# Altium footprint library Elantec Footprints.PcbLib: 48 footprints (part 3 of 3)
Each footprint in its own frame and in the unit in brackets; x right, y up, seen from the top. Pads: shape width x height; smd on the part's side, far side on the other; paste and mask are expansions set on the pad; w line width, h text height; cw(c..) or ccw(c..) is an arc to the next point about the centre after c.
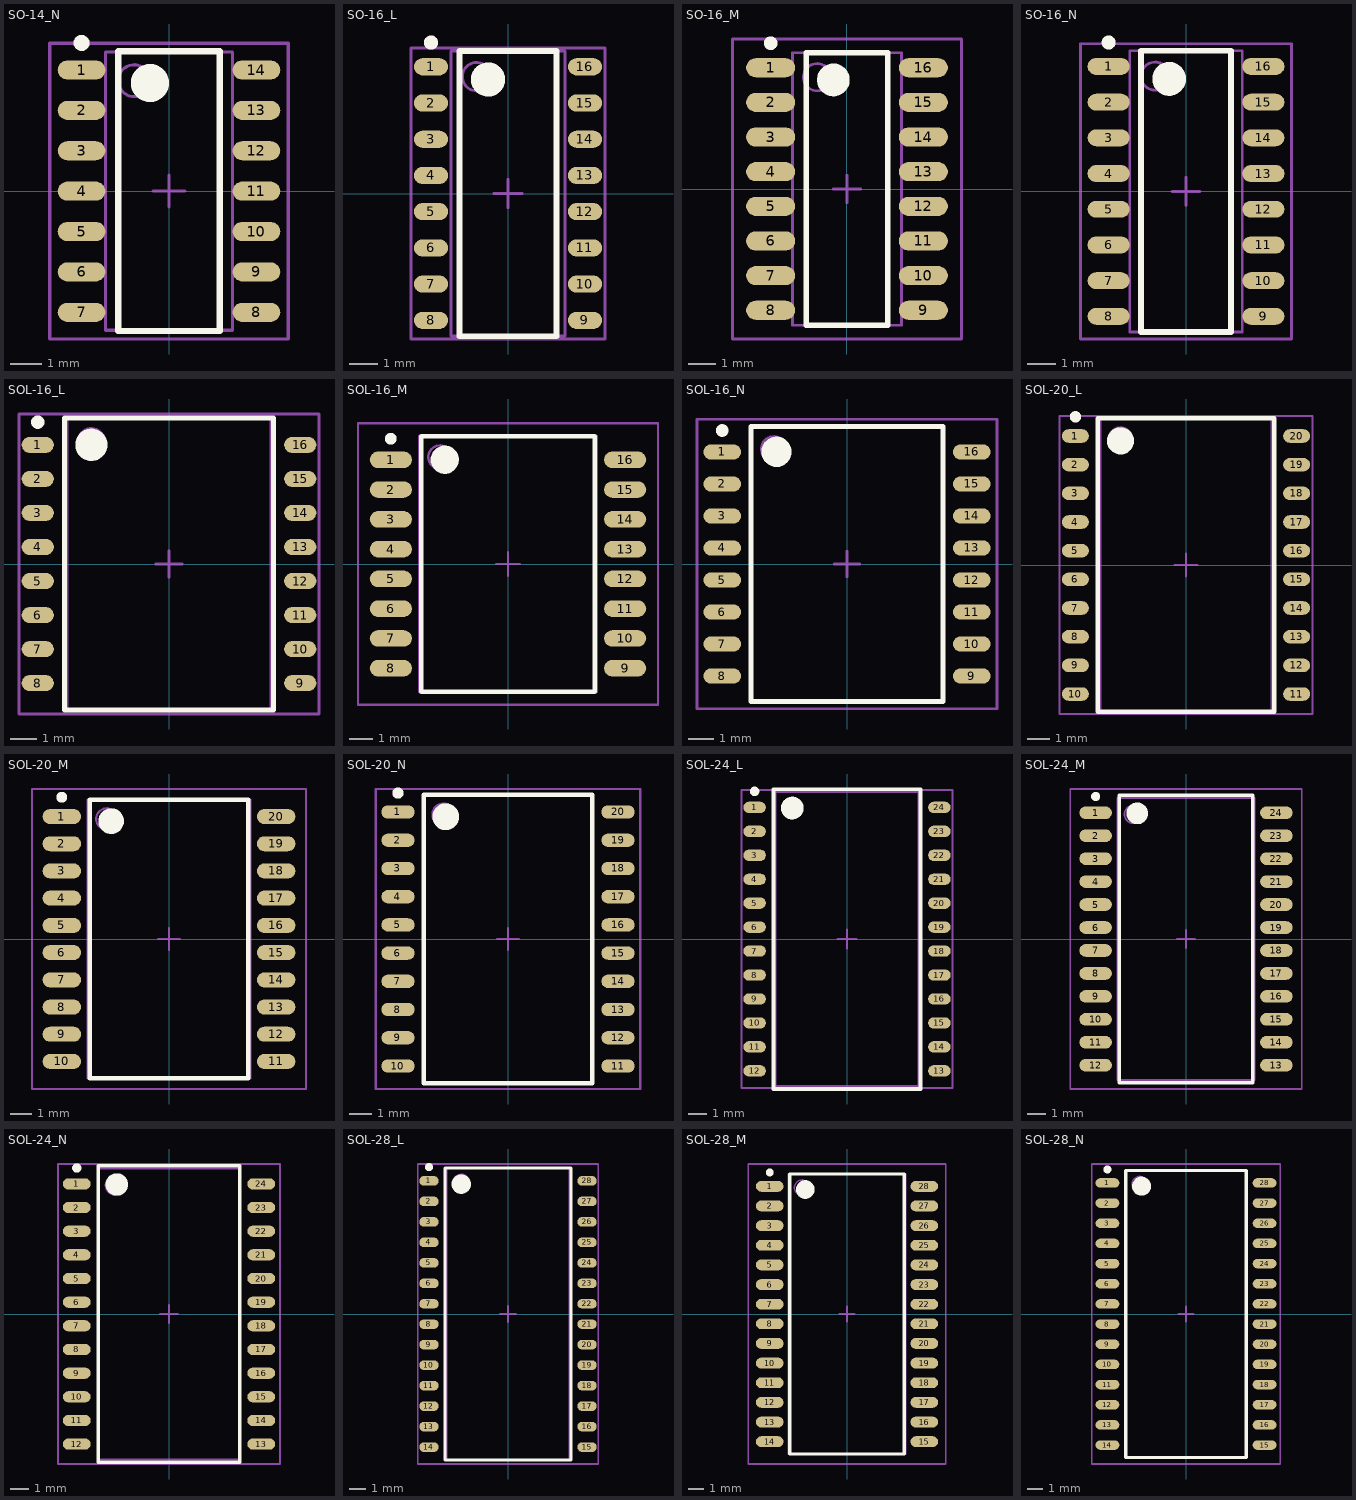
[diagram p2: the footprints below, top view; thin cyan lines are the x and y axes]

## SO-14_N [mm] "14-Pin Small Outline Integrated Circuit 1.27 mm Pitch, IPC Medium Density"
height 1.73
pads (14):
  oval 1.5x0.6 smd: 1(-2.75,3.81) 2(-2.75,2.54) 3(-2.75,1.27) 4(-2.75,0) 5(-2.75,-1.27) 6(-2.75,-2.54) 7(-2.75,-3.81) 8(2.75,-3.81) 9(2.75,-2.54) 10(2.75,-1.27) 11(2.75,0) 12(2.75,1.27) 13(2.75,2.54) 14(2.75,3.81)
Top Overlay:
  circle w0.25: c-2.75,4.66 r0.125
  circle w0.6: c-0.6,3.4 r0.3
  lines w0.2: -1.6,-4.4 -1.6,4.4 1.6,4.4 1.6,-4.4 -1.6,-4.4
Mechanical 13:
  circle w0.1: c-1.1,3.475 r0.5
  lines w0.1: -2,-4.375 -2,4.375 2,4.375 2,-4.375 -2,-4.375
Mechanical 15:
  lines w0.1: -0.5,0 0.5,0 ; 0,-0.5 0,0.5 ; -3.75,-4.65 -3.75,4.65 3.75,4.65 3.75,-4.65 -3.75,-4.65
3D body: height 1.73, standoff 0, extent -2,-4.375 2,4.375

## SO-16_L [mm] "16-Pin Small Outline Integrated Circuit 1.27 mm Pitch, IPC High Density"
height 1.73
pads (16):
  oval 1.2x0.6 smd: 1(-2.7,4.445) 2(-2.7,3.175) 3(-2.7,1.905) 4(-2.7,0.635) 5(-2.7,-0.635) 6(-2.7,-1.905) 7(-2.7,-3.175) 8(-2.7,-4.445) 9(2.7,-4.445) 10(2.7,-3.175) 11(2.7,-1.905) 12(2.7,-0.635) 13(2.7,0.635) 14(2.7,1.905) 15(2.7,3.175) 16(2.7,4.445)
Top Overlay:
  circle w0.6: c-0.7,4 r0.3
  circle w0.25: c-2.7,5.295 r0.125
  lines w0.2: -1.7,-5 1.7,-5 1.7,5 -1.7,5 -1.7,-5
Mechanical 13:
  circle w0.1: c-1.1,4.1 r0.5
  lines w0.1: -2,-5 2,-5 2,5 -2,5 -2,-5
Mechanical 15:
  lines w0.1: -0.5,0 0.5,0 ; 0,-0.5 0,0.5 ; -3.4,-5.1 3.4,-5.1 3.4,5.1 -3.4,5.1 -3.4,-5.1
3D body: height 1.73, standoff 0, extent -2,-5 2,5

## SO-16_M [mm] "16-Pin Small Outline Integrated Circuit 1.27 mm Pitch, IPC Low Density"
height 1.73
pads (16):
  oval 1.8x0.7 smd: 1(-2.8,4.445) 2(-2.8,3.175) 3(-2.8,1.905) 4(-2.8,0.635) 5(-2.8,-0.635) 6(-2.8,-1.905) 7(-2.8,-3.175) 8(-2.8,-4.445) 9(2.8,-4.445) 10(2.8,-3.175) 11(2.8,-1.905) 12(2.8,-0.635) 13(2.8,0.635) 14(2.8,1.905) 15(2.8,3.175) 16(2.8,4.445)
Top Overlay:
  circle w0.6: c-0.5,4 r0.3
  circle w0.25: c-2.8,5.345 r0.125
  lines w0.2: -1.5,-5 1.5,-5 1.5,5 -1.5,5 -1.5,-5
Mechanical 13:
  circle w0.1: c-1.1,4.1 r0.5
  lines w0.1: -2,-5 2,-5 2,5 -2,5 -2,-5
Mechanical 15:
  lines w0.1: -0.5,0 0.5,0 ; 0,-0.5 0,0.5 ; -4.2,-5.5 4.2,-5.5 4.2,5.5 -4.2,5.5 -4.2,-5.5
3D body: height 1.73, standoff 0, extent -2,-5 2,5

## SO-16_N [mm] "16-Pin Small Outline Integrated Circuit 1.27 mm Pitch, IPC Medium Density"
height 1.73
pads (16):
  oval 1.5x0.6 smd: 1(-2.75,4.445) 2(-2.75,3.175) 3(-2.75,1.905) 4(-2.75,0.635) 5(-2.75,-0.635) 6(-2.75,-1.905) 7(-2.75,-3.175) 8(-2.75,-4.445) 9(2.75,-4.445) 10(2.75,-3.175) 11(2.75,-1.905) 12(2.75,-0.635) 13(2.75,0.635) 14(2.75,1.905) 15(2.75,3.175) 16(2.75,4.445)
Top Overlay:
  circle w0.25: c-2.75,5.295 r0.125
  circle w0.6: c-0.6,4 r0.3
  lines w0.2: -1.6,-5 -1.6,5 1.6,5 1.6,-5 -1.6,-5
Mechanical 13:
  circle w0.1: c-1.1,4.1 r0.5
  lines w0.1: -2,-5 -2,5 2,5 2,-5 -2,-5
Mechanical 15:
  lines w0.1: -0.5,0 0.5,0 ; 0,-0.5 0,0.5 ; -3.75,-5.25 -3.75,5.25 3.75,5.25 3.75,-5.25 -3.75,-5.25
3D body: height 1.73, standoff 0, extent -2,-5 2,5

## SOL-16_L [mm] "16-Pin Small Outline Integrated Circuit 1.27 mm Pitch, IPC High Density"
height 2.65
pads (16):
  oval 1.2x0.6 smd: 1(-4.9,4.445) 2(-4.9,3.175) 3(-4.9,1.905) 4(-4.9,0.635) 5(-4.9,-0.635) 6(-4.9,-1.905) 7(-4.9,-3.175) 8(-4.9,-4.445) 9(4.9,-4.445) 10(4.9,-3.175) 11(4.9,-1.905) 12(4.9,-0.635) 13(4.9,0.635) 14(4.9,1.905) 15(4.9,3.175) 16(4.9,4.445)
Top Overlay:
  circle w0.25: c-4.9,5.295 r0.125
  circle w0.6: c-2.9,4.45 r0.3
  lines w0.2: -3.9,-5.45 -3.9,5.45 3.9,5.45 3.9,-5.45 -3.9,-5.45
Mechanical 13:
  circle w0.1: c-2.9,4.56 r0.5
  lines w0.1: -3.8,-5.46 -3.8,5.46 3.8,5.46 3.8,-5.46 -3.8,-5.46
Mechanical 15:
  lines w0.1: -0.5,0 0.5,0 ; 0,-0.5 0,0.5 ; -5.6,-5.6 -5.6,5.6 5.6,5.6 5.6,-5.6 -5.6,-5.6
3D body: height 2.65, standoff 0, extent -3.8,-5.46 3.8,5.46

## SOL-16_M [mm] "16-Pin Small Outline Integrated Circuit 1.27 mm Pitch, IPC Low Density"
height 2.65
pads (16):
  oval 1.8x0.7 smd: 1(-5,4.445) 2(-5,3.175) 3(-5,1.905) 4(-5,0.635) 5(-5,-0.635) 6(-5,-1.905) 7(-5,-3.175) 8(-5,-4.445) 9(5,-4.445) 10(5,-3.175) 11(5,-1.905) 12(5,-0.635) 13(5,0.635) 14(5,1.905) 15(5,3.175) 16(5,4.445)
Top Overlay:
  circle w0.25: c-5,5.345 r0.125
  circle w0.6: c-2.7,4.45 r0.3
  lines w0.2: -3.7,-5.45 -3.7,5.45 3.7,5.45 3.7,-5.45 -3.7,-5.45
Mechanical 13:
  circle w0.1: c-2.9,4.56 r0.5
  lines w0.1: -3.8,-5.46 -3.8,5.46 3.8,5.46 3.8,-5.46 -3.8,-5.46
Mechanical 15:
  lines w0.1: -0.5,0 0.5,0 ; 0,-0.5 0,0.5 ; -6.4,-6 -6.4,6 6.4,6 6.4,-6 -6.4,-6
3D body: height 2.65, standoff 0, extent -3.8,-5.46 3.8,5.46

## SOL-16_N [mm] "16-Pin Small Outline Integrated Circuit 1.27 mm Pitch, IPC Medium Density"
height 2.65
pads (16):
  oval 1.5x0.6 smd: 1(-4.95,4.445) 2(-4.95,3.175) 3(-4.95,1.905) 4(-4.95,0.635) 5(-4.95,-0.635) 6(-4.95,-1.905) 7(-4.95,-3.175) 8(-4.95,-4.445) 9(4.95,-4.445) 10(4.95,-3.175) 11(4.95,-1.905) 12(4.95,-0.635) 13(4.95,0.635) 14(4.95,1.905) 15(4.95,3.175) 16(4.95,4.445)
Top Overlay:
  circle w0.25: c-4.95,5.295 r0.125
  circle w0.6: c-2.8,4.45 r0.3
  lines w0.2: -3.8,-5.45 -3.8,5.45 3.8,5.45 3.8,-5.45 -3.8,-5.45
Mechanical 13:
  circle w0.1: c-2.9,4.56 r0.5
  lines w0.1: -3.8,-5.46 -3.8,5.46 3.8,5.46 3.8,-5.46 -3.8,-5.46
Mechanical 15:
  lines w0.1: -0.5,0 0.5,0 ; 0,-0.5 0,0.5 ; -5.95,-5.75 -5.95,5.75 5.95,5.75 5.95,-5.75 -5.95,-5.75
3D body: height 2.65, standoff 0, extent -3.8,-5.46 3.8,5.46

## SOL-20_L [mm] "20-Pin Small Outline Integrated Circuit 1.27 mm Pitch, IPC High Density"
height 2.65
pads (20):
  oval 1.2x0.6 smd: 1(-4.9,5.715) 2(-4.9,4.445) 3(-4.9,3.175) 4(-4.9,1.905) 5(-4.9,0.635) 6(-4.9,-0.635) 7(-4.9,-1.905) 8(-4.9,-3.175) 9(-4.9,-4.445) 10(-4.9,-5.715) 11(4.9,-5.715) 12(4.9,-4.445) 13(4.9,-3.175) 14(4.9,-1.905) 15(4.9,-0.635) 16(4.9,0.635) 17(4.9,1.905) 18(4.9,3.175) 19(4.9,4.445) 20(4.9,5.715)
Top Overlay:
  circle w0.25: c-4.9,6.565 r0.125
  circle w0.6: c-2.9,5.5 r0.3
  lines w0.2: -3.9,-6.5 -3.9,6.5 3.9,6.5 3.9,-6.5 -3.9,-6.5
Mechanical 13:
  circle w0.1: c-2.9,5.6 r0.5
  lines w0.1: -3.8,-6.5 -3.8,6.5 3.8,6.5 3.8,-6.5 -3.8,-6.5
Mechanical 15:
  lines w0.1: -0.5,0 0.5,0 ; 0,-0.5 0,0.5 ; -5.6,-6.6 -5.6,6.6 5.6,6.6 5.6,-6.6 -5.6,-6.6
3D body: height 2.65, standoff 0, extent -3.8,-6.5 3.8,6.5

## SOL-20_M [mm] "20-Pin Small Outline Integrated Circuit 1.27 mm Pitch, IPC Low Density"
height 2.65
pads (20):
  oval 1.8x0.7 smd: 1(-5,5.715) 2(-5,4.445) 3(-5,3.175) 4(-5,1.905) 5(-5,0.635) 6(-5,-0.635) 7(-5,-1.905) 8(-5,-3.175) 9(-5,-4.445) 10(-5,-5.715) 11(5,-5.715) 12(5,-4.445) 13(5,-3.175) 14(5,-1.905) 15(5,-0.635) 16(5,0.635) 17(5,1.905) 18(5,3.175) 19(5,4.445) 20(5,5.715)
Top Overlay:
  circle w0.25: c-5,6.615 r0.125
  circle w0.6: c-2.7,5.5 r0.3
  lines w0.2: -3.7,-6.5 -3.7,6.5 3.7,6.5 3.7,-6.5 -3.7,-6.5
Mechanical 13:
  circle w0.1: c-2.9,5.6 r0.5
  lines w0.1: -3.8,-6.5 -3.8,6.5 3.8,6.5 3.8,-6.5 -3.8,-6.5
Mechanical 15:
  lines w0.1: -0.5,0 0.5,0 ; 0,-0.5 0,0.5 ; -6.4,-7 -6.4,7 6.4,7 6.4,-7 -6.4,-7
3D body: height 2.65, standoff 0, extent -3.8,-6.5 3.8,6.5

## SOL-20_N [mm] "20-Pin Small Outline Integrated Circuit 1.27 mm Pitch, IPC Medium Density"
height 2.65
pads (20):
  oval 1.5x0.6 smd: 1(-4.95,5.715) 2(-4.95,4.445) 3(-4.95,3.175) 4(-4.95,1.905) 5(-4.95,0.635) 6(-4.95,-0.635) 7(-4.95,-1.905) 8(-4.95,-3.175) 9(-4.95,-4.445) 10(-4.95,-5.715) 11(4.95,-5.715) 12(4.95,-4.445) 13(4.95,-3.175) 14(4.95,-1.905) 15(4.95,-0.635) 16(4.95,0.635) 17(4.95,1.905) 18(4.95,3.175) 19(4.95,4.445) 20(4.95,5.715)
Top Overlay:
  circle w0.25: c-4.95,6.565 r0.125
  circle w0.6: c-2.8,5.5 r0.3
  lines w0.2: -3.8,-6.5 -3.8,6.5 3.8,6.5 3.8,-6.5 -3.8,-6.5
Mechanical 13:
  circle w0.1: c-2.9,5.6 r0.5
  lines w0.1: -3.8,-6.5 -3.8,6.5 3.8,6.5 3.8,-6.5 -3.8,-6.5
Mechanical 15:
  lines w0.1: -0.5,0 0.5,0 ; 0,-0.5 0,0.5 ; -5.95,-6.75 -5.95,6.75 5.95,6.75 5.95,-6.75 -5.95,-6.75
3D body: height 2.65, standoff 0, extent -3.8,-6.5 3.8,6.5

## SOL-24_L [mm] "24-Pin Small Outline Integrated Circuit 1.27 mm Pitch, IPC High Density"
height 2.65
pads (24):
  oval 1.2x0.6 smd: 1(-4.9,6.985) 2(-4.9,5.715) 3(-4.9,4.445) 4(-4.9,3.175) 5(-4.9,1.905) 6(-4.9,0.635) 7(-4.9,-0.635) 8(-4.9,-1.905) 9(-4.9,-3.175) 10(-4.9,-4.445) 11(-4.9,-5.715) 12(-4.9,-6.985) 13(4.9,-6.985) 14(4.9,-5.715) 15(4.9,-4.445) 16(4.9,-3.175) 17(4.9,-1.905) 18(4.9,-0.635) 19(4.9,0.635) 20(4.9,1.905) 21(4.9,3.175) 22(4.9,4.445) 23(4.9,5.715) 24(4.9,6.985)
Top Overlay:
  circle w0.25: c-4.9,7.835 r0.125
  circle w0.6: c-2.9,6.95 r0.3
  lines w0.2: -3.9,-7.95 -3.9,7.95 3.9,7.95 3.9,-7.95 -3.9,-7.95
Mechanical 13:
  circle w0.1: c-2.9,6.9 r0.5
  lines w0.1: -3.8,-7.8 -3.8,7.8 3.8,7.8 3.8,-7.8 -3.8,-7.8
Mechanical 15:
  lines w0.1: -0.5,0 0.5,0 ; 0,-0.5 0,0.5 ; -5.6,-7.9 -5.6,7.9 5.6,7.9 5.6,-7.9 -5.6,-7.9
3D body: height 2.65, standoff 0, extent -3.8,-7.8 3.8,7.8

## SOL-24_M [mm] "24-Pin Small Outline Integrated Circuit 1.27 mm Pitch, IPC Low Density"
height 2.65
pads (24):
  oval 1.8x0.7 smd: 1(-5,6.985) 2(-5,5.715) 3(-5,4.445) 4(-5,3.175) 5(-5,1.905) 6(-5,0.635) 7(-5,-0.635) 8(-5,-1.905) 9(-5,-3.175) 10(-5,-4.445) 11(-5,-5.715) 12(-5,-6.985) 13(5,-6.985) 14(5,-5.715) 15(5,-4.445) 16(5,-3.175) 17(5,-1.905) 18(5,-0.635) 19(5,0.635) 20(5,1.905) 21(5,3.175) 22(5,4.445) 23(5,5.715) 24(5,6.985)
Top Overlay:
  circle w0.25: c-5,7.885 r0.125
  circle w0.6: c-2.7,6.95 r0.3
  lines w0.2: -3.7,-7.95 -3.7,7.95 3.7,7.95 3.7,-7.95 -3.7,-7.95
Mechanical 13:
  circle w0.1: c-2.9,6.9 r0.5
  lines w0.1: -3.8,-7.8 -3.8,7.8 3.8,7.8 3.8,-7.8 -3.8,-7.8
Mechanical 15:
  lines w0.1: -0.5,0 0.5,0 ; 0,-0.5 0,0.5 ; -6.4,-8.3 -6.4,8.3 6.4,8.3 6.4,-8.3 -6.4,-8.3
3D body: height 2.65, standoff 0, extent -3.8,-7.8 3.8,7.8

## SOL-24_N [mm] "24-Pin Small Outline Integrated Circuit 1.27 mm Pitch, IPC Medium Density"
height 2.65
pads (24):
  oval 1.5x0.6 smd: 1(-4.95,6.985) 2(-4.95,5.715) 3(-4.95,4.445) 4(-4.95,3.175) 5(-4.95,1.905) 6(-4.95,0.635) 7(-4.95,-0.635) 8(-4.95,-1.905) 9(-4.95,-3.175) 10(-4.95,-4.445) 11(-4.95,-5.715) 12(-4.95,-6.985) 13(4.95,-6.985) 14(4.95,-5.715) 15(4.95,-4.445) 16(4.95,-3.175) 17(4.95,-1.905) 18(4.95,-0.635) 19(4.95,0.635) 20(4.95,1.905) 21(4.95,3.175) 22(4.95,4.445) 23(4.95,5.715) 24(4.95,6.985)
Top Overlay:
  circle w0.25: c-4.95,7.835 r0.125
  circle w0.6: c-2.8,6.95 r0.3
  lines w0.2: -3.8,-7.95 -3.8,7.95 3.8,7.95 3.8,-7.95 -3.8,-7.95
Mechanical 13:
  circle w0.1: c-2.9,6.9 r0.5
  lines w0.1: -3.8,-7.8 -3.8,7.8 3.8,7.8 3.8,-7.8 -3.8,-7.8
Mechanical 15:
  lines w0.1: -0.5,0 0.5,0 ; 0,-0.5 0,0.5 ; -5.95,-8.05 -5.95,8.05 5.95,8.05 5.95,-8.05 -5.95,-8.05
3D body: height 2.65, standoff 0, extent -3.8,-7.8 3.8,7.8

## SOL-28_L [mm] "28-Pin Small Outline Integrated Circuit 1.27 mm Pitch, IPC High Density"
height 2.65
pads (28):
  oval 1.2x0.6 smd: 1(-4.9,8.255) 2(-4.9,6.985) 3(-4.9,5.715) 4(-4.9,4.445) 5(-4.9,3.175) 6(-4.9,1.905) 7(-4.9,0.635) 8(-4.9,-0.635) 9(-4.9,-1.905) 10(-4.9,-3.175) 11(-4.9,-4.445) 12(-4.9,-5.715) 13(-4.9,-6.985) 14(-4.9,-8.255) 15(4.9,-8.255) 16(4.9,-6.985) 17(4.9,-5.715) 18(4.9,-4.445) 19(4.9,-3.175) 20(4.9,-1.905) 21(4.9,-0.635) 22(4.9,0.635) 23(4.9,1.905) 24(4.9,3.175) 25(4.9,4.445) 26(4.9,5.715) 27(4.9,6.985) 28(4.9,8.255)
Top Overlay:
  circle w0.25: c-4.9,9.105 r0.125
  circle w0.6: c-2.9,8.05 r0.3
  lines w0.2: -3.9,-9.05 -3.9,9.05 3.9,9.05 3.9,-9.05 -3.9,-9.05
Mechanical 13:
  circle w0.1: c-2.9,8.165 r0.5
  lines w0.1: -3.8,-9.065 -3.8,9.065 3.8,9.065 3.8,-9.065 -3.8,-9.065
Mechanical 15:
  lines w0.1: -0.5,0 0.5,0 ; 0,-0.5 0,0.5 ; -5.6,-9.3 -5.6,9.3 5.6,9.3 5.6,-9.3 -5.6,-9.3
3D body: height 2.65, standoff 0, extent -3.8,-9.065 3.8,9.065

## SOL-28_M [mm] "28-Pin Small Outline Integrated Circuit 1.27 mm Pitch, IPC Low Density"
height 2.65
pads (28):
  oval 1.8x0.7 smd: 1(-5,8.255) 2(-5,6.985) 3(-5,5.715) 4(-5,4.445) 5(-5,3.175) 6(-5,1.905) 7(-5,0.635) 8(-5,-0.635) 9(-5,-1.905) 10(-5,-3.175) 11(-5,-4.445) 12(-5,-5.715) 13(-5,-6.985) 14(-5,-8.255) 15(5,-8.255) 16(5,-6.985) 17(5,-5.715) 18(5,-4.445) 19(5,-3.175) 20(5,-1.905) 21(5,-0.635) 22(5,0.635) 23(5,1.905) 24(5,3.175) 25(5,4.445) 26(5,5.715) 27(5,6.985) 28(5,8.255)
Top Overlay:
  circle w0.25: c-5,9.155 r0.125
  circle w0.6: c-2.7,8.05 r0.3
  lines w0.2: -3.7,-9.05 -3.7,9.05 3.7,9.05 3.7,-9.05 -3.7,-9.05
Mechanical 13:
  circle w0.1: c-2.9,8.165 r0.5
  lines w0.1: -3.8,-9.065 -3.8,9.065 3.8,9.065 3.8,-9.065 -3.8,-9.065
Mechanical 15:
  lines w0.1: -0.5,0 0.5,0 ; 0,-0.5 0,0.5 ; -6.4,-9.7 -6.4,9.7 6.4,9.7 6.4,-9.7 -6.4,-9.7
3D body: height 2.65, standoff 0, extent -3.8,-9.065 3.8,9.065

## SOL-28_N [mm] "28-Pin Small Outline Integrated Circuit 1.27 mm Pitch, IPC Medium Density"
height 2.65
pads (28):
  oval 1.5x0.6 smd: 1(-4.95,8.255) 2(-4.95,6.985) 3(-4.95,5.715) 4(-4.95,4.445) 5(-4.95,3.175) 6(-4.95,1.905) 7(-4.95,0.635) 8(-4.95,-0.635) 9(-4.95,-1.905) 10(-4.95,-3.175) 11(-4.95,-4.445) 12(-4.95,-5.715) 13(-4.95,-6.985) 14(-4.95,-8.255) 15(4.95,-8.255) 16(4.95,-6.985) 17(4.95,-5.715) 18(4.95,-4.445) 19(4.95,-3.175) 20(4.95,-1.905) 21(4.95,-0.635) 22(4.95,0.635) 23(4.95,1.905) 24(4.95,3.175) 25(4.95,4.445) 26(4.95,5.715) 27(4.95,6.985) 28(4.95,8.255)
Top Overlay:
  circle w0.25: c-4.95,9.105 r0.125
  circle w0.6: c-2.8,8.05 r0.3
  lines w0.2: -3.8,-9.05 -3.8,9.05 3.8,9.05 3.8,-9.05 -3.8,-9.05
Mechanical 13:
  circle w0.1: c-2.9,8.165 r0.5
  lines w0.1: -3.8,-9.065 -3.8,9.065 3.8,9.065 3.8,-9.065 -3.8,-9.065
Mechanical 15:
  lines w0.1: -0.5,0 0.5,0 ; 0,-0.5 0,0.5 ; -5.95,-9.45 -5.95,9.45 5.95,9.45 5.95,-9.45 -5.95,-9.45
3D body: height 2.65, standoff 0, extent -3.8,-9.065 3.8,9.065